# Altium schematic symbol library 2020-11-22_18-54-36.SchLib: 2 symbols
Pins are listed as number, name and electrical type; pins without a type are passive.

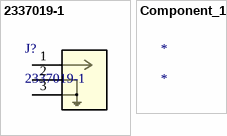
[diagram p0: symbols 2337019-1 to Component_1]

## 2337019-1
designator J?
No Description Available; Vendor: TE Connectivity; Built_By: EMA_Kyle; SourceLibrary: Updates_to_database_2020-11-12; Datasheet: https://www.te.com/commerce/DocumentDelivery/DDEController?Action=showdoc&DocId=Customer+Drawing%7FC-2337019%7FA3%7Fpdf%7FEnglish%7FENG_CD_C-2337019_A3.pdf%7F2337019-1; Manufacturer_Part_Number: 2337019-1; Copyright: Copyright (C) 2018 Accelerated Designs. All rights reserved; RefDes: RefDes; Type: DEV
footprint CONN_2337019-1
pins: 1, 2, 3

## Component_1
designator *